# EAGLE library part 18F4620TP (library custom)
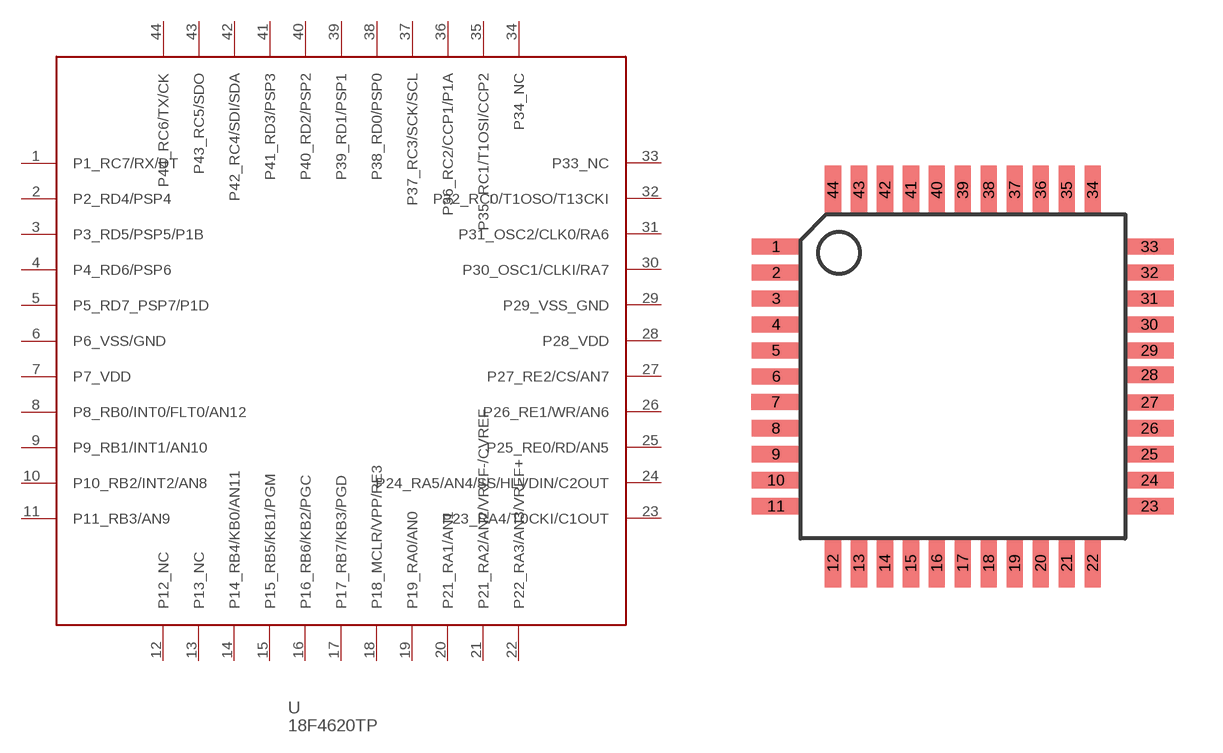
[diagram p3: symbol with the pads of 18F4620PT; footprint 18F4620PT]

Designator prefix -

## 18F4620TP  [18F4620PT]
1  P1_RC7/RX/DT
2  P2_RD4/PSP4
3  P3_RD5/PSP5/P1B
4  P4_RD6/PSP6
5  P5_RD7_PSP7/P1D
6  P6_VSS/GND  in
7  P7_VDD  in
8  P8_RB0/INT0/FLT0/AN12
9  P9_RB1/INT1/AN10
10  P10_RB2/INT2/AN8
11  P11_RB3/AN9
12  P12_NC  nc
13  P13_NC  nc
14  P14_RB4/KB0/AN11
15  P15_RB5/KB1/PGM
16  P16_RB6/KB2/PGC
17  P17_RB7/KB3/PGD
18  P18_MCLR/VPP/RE3
19  P19_RA0/AN0
20  P21_RA1/AN1
21  P21_RA2/AN2/VREF-/CVREF
22  P22_RA3/AN3/VREF+
23  P23_RA4/T0CKI/C1OUT
24  P24_RA5/AN4/SS/HLVDIN/C2OUT
25  P25_RE0/RD/AN5
26  P26_RE1/WR/AN6
27  P27_RE2/CS/AN7
28  P28_VDD  in
29  P29_VSS_GND  in
30  P30_OSC1/CLKI/RA7
31  P31_OSC2/CLK0/RA6
32  P32_RC0/T1OSO/T13CKI
33  P33_NC  nc
34  P34_NC  nc
35  P35_RC1/T1OSI/CCP2
36  P36_RC2/CCP1/P1A
37  P37_RC3/SCK/SCL
38  P38_RD0/PSP0
39  P39_RD1/PSP1
40  P40_RD2/PSP2
41  P41_RD3/PSP3
42  P42_RC4/SDI/SDA
43  P43_RC5/SDO
44  P44_RC6/TX/CK

## Footprint 18F4620PT (pad centres in mm)
smd 1.5 x 0.5: 1 -5.75,4; 2 -5.75,3.2; 3 -5.75,2.4; 4 -5.75,1.6; 5 -5.75,0.8; 6 -5.75,0; 7 -5.77,-0.79; 8 -5.75,-1.6; 9 -5.75,-2.4; 10 -5.75,-3.2; 11 -5.75,-4; 23 5.75,-4; 24 5.75,-3.2; 25 5.75,-2.4; 26 5.75,-1.6; 27 5.75,-0.8; 28 5.75,0.05; 29 5.75,0.8; 30 5.75,1.6; 31 5.75,2.4; 32 5.75,3.2; 33 5.75,4
smd 0.5 x 1.5: 12 -4,-5.75; 13 -3.2,-5.75; 14 -2.4,-5.75; 15 -1.6,-5.75; 16 -0.8,-5.75; 17 0,-5.75; 18 0.8,-5.75; 19 1.6,-5.75; 20 2.4,-5.75; 21 3.2,-5.75; 22 4,-5.75; 34 4,5.75; 35 3.2,5.75; 36 2.4,5.75; 37 1.6,5.75; 38 0.8,5.75; 39 0,5.75; 40 -0.8,5.75; 41 -1.6,5.75; 42 -2.4,5.75; 43 -3.2,5.75; 44 -4,5.75